# Altium schematic symbol library DI_SHOTTKY.SchLib: 1 symbol
Pins are listed as number, name and electrical type; pins without a type are passive.

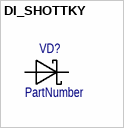
[diagram p0: symbol DI_SHOTTKY]

## DI_SHOTTKY
designator VD?  (value not drawn)
Диод шоттки (дезигнаторы буквенные A/C); PartNumber: PartNumber
pins: A, C